# Altium integrated library Library.IntLib: 7 symbols
Pins are listed as number, name and electrical type; pins without a type are passive.

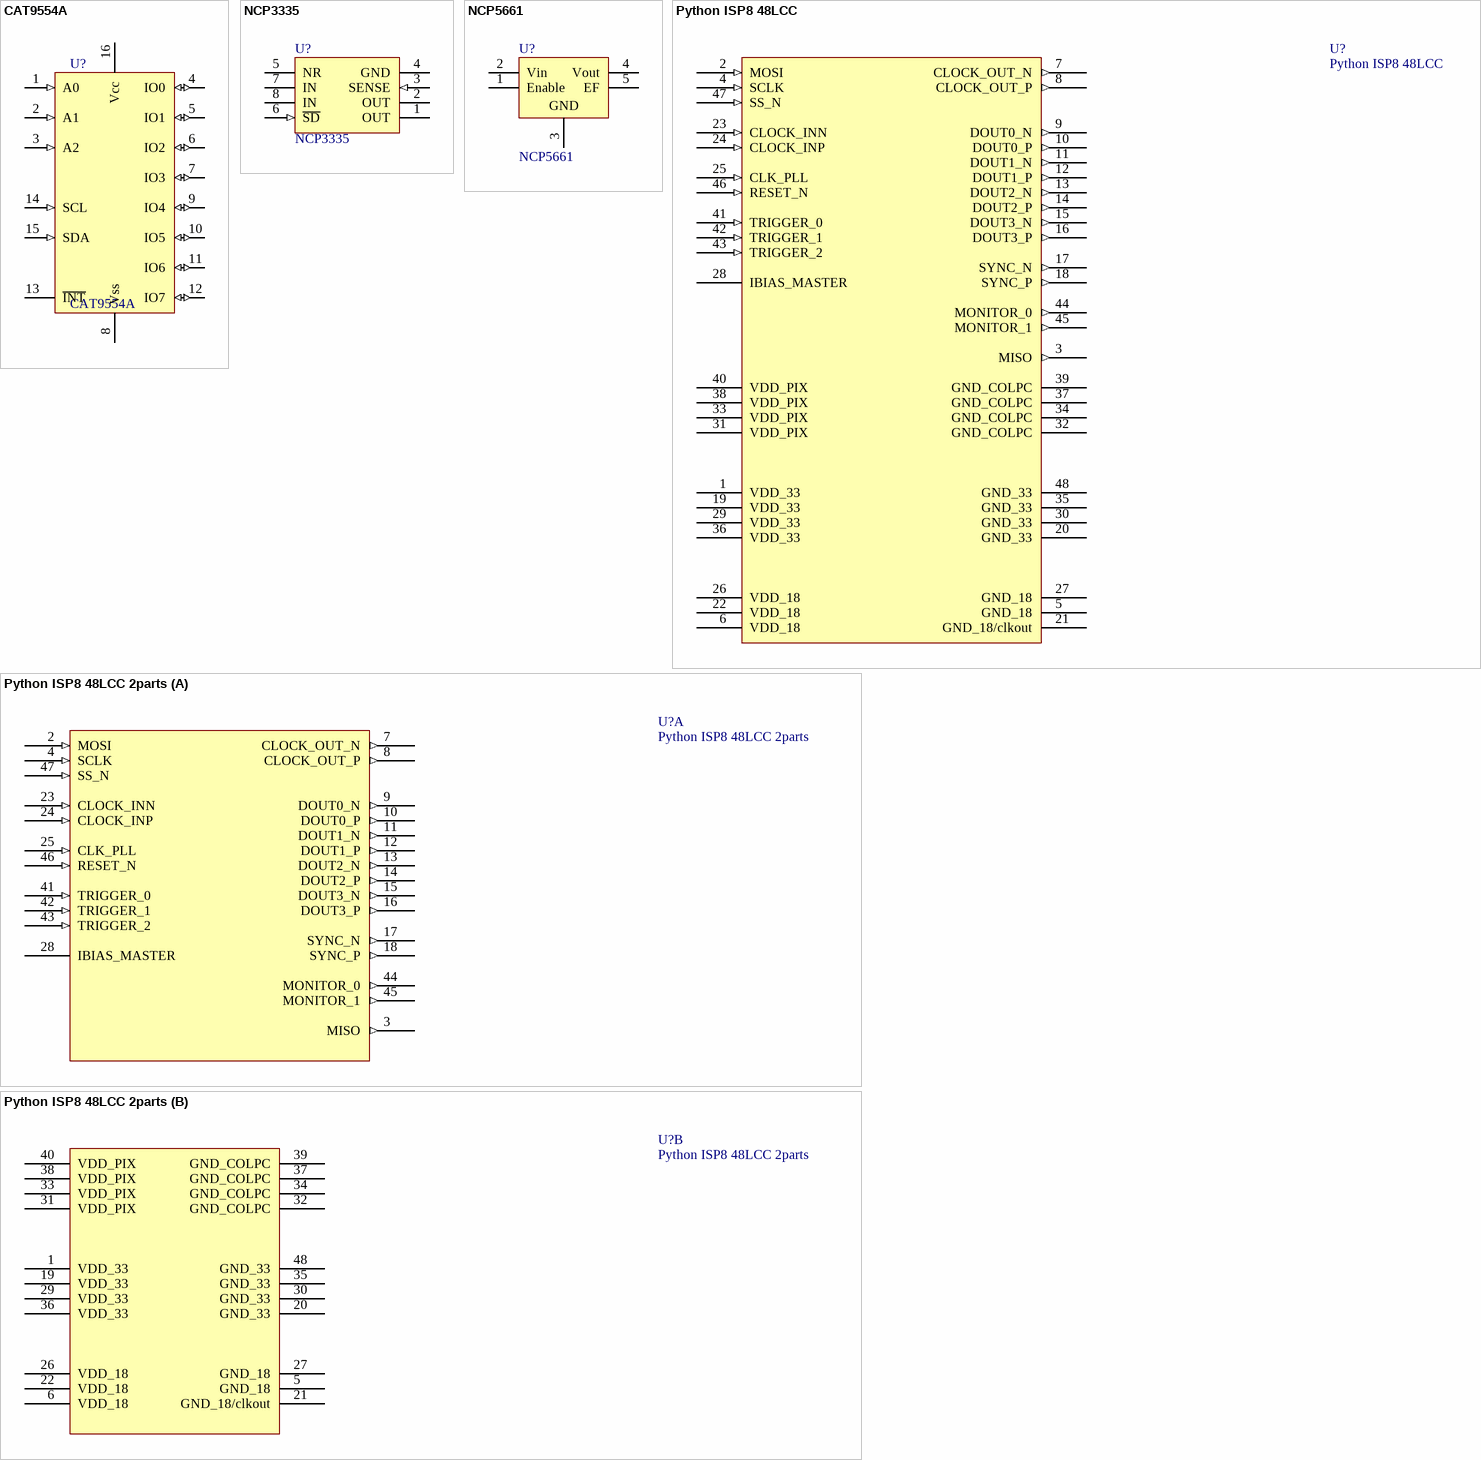
[diagram p0: symbols CAT9554A to Python ISP8 48LCC 2parts]

## CAT9554A
designator U?
8bit I2C port expander; Published: 16-Jan-2001; LatestRevisionDate: 13-Apr-2006; LatestRevisionNote: IPC-7351 Footprint Added.; DatasheetVersion: 1996; PackageReference: WSO16; Publisher: Altium Limited; PackageDescription: 16-Pin Small Outline Integrated Circuit 1.27 mm Pitch; Code_JEDEC: MS-013-AA; Code_IPC: SOIC127P1030-16; ComponentLink1Description: Manufacturer Link; ComponentLink1URL: http://www.maxim-ic.com/; ComponentLink2Description: Datasheet; ComponentLink2URL: http://pdfserv.maxim-ic.com/en/ds/DG300A-DG303A.pdf
footprint TSSOP16_N (TSOP, 16-Leads, Body 5x4.4mm, Pitch 0.65mm, IPC Medium Density)
pins: 1 A0 (in), 2 A1 (in), 3 A2 (in), 4 IO0 (io), 5 IO1 (io), 6 IO2 (io), 7 IO3 (io), 8 Vss, 9 IO4 (io), 10 IO5 (io), 11 IO6 (io), 12 IO7 (io), 13 ~{INT}, 14 SCL (in), 15 SDA (in), 16 Vcc (power)

## NCP3335
designator U?
NCP3335ADMADJR2G, ADJ Ultra High Accuracy, Low Iq, 500 mA Low Dropout Regulator; Published: 15-Apr-2002; LatestRevisionDate: 13-Apr-2006; LatestRevisionNote: IPC-7351 Footprint Added.; DatasheetVersion: 1998; PackageVersion: 1998; PackageReference: 751-05; Publisher: Altium Limited; PackageDescription: 8-Pin Small Outline Integrated Circuit 1.27 mm Pitch; Code_JEDEC: MS-012-AA; Code_IPC: SOIC127P600-8; ComponentLink1Description: Manufacturer Link; ComponentLink1URL: http://www.onsemi.com/site/products/taxonomy/0,4438,503,00.html; ComponentLink2Description: Datasheet; ComponentLink2URL: http://www.onsemi.com/pub/Collateral/MC33264-D.PDF
footprint ONSC-MICRO-8-846A-02_H_V (SOIC, 8-Leads, Body 3.1x3.1mm, Pitch 0.65mm)
pins: 1 OUT, 2 OUT, 3 SENSE (in), 4 GND (power), 5 NR, 6 ~{SD} (in), 7 IN, 8 IN

## NCP5661
designator U?
Low Dropout Voltage Regulator; Note: Heatsink surface is connected to Pin 3; Published: 15-Apr-2002; DatasheetVersion: 1997; PackageVersion: 1997; PackageReference: 314A-03; Publisher: Altium Limited; PackageDescription: TO, Thru-Hole, Horizontal, Heatsink Mounted; 5 Bent Staggered Leads; Pitch 1.7 mm; ComponentLink1Description: Manufacturer Link; ComponentLink1URL: http://www.onsemi.com/site/products/taxonomy/0,4438,503,00.html; ComponentLink2Description: Datasheet; ComponentLink2URL: http://www.onsemi.com/pub/Collateral/LM2931-D.PDF
footprint ONSC-DFN6-6-488-03_V (SON, 6-Leads, Body 2.2x2mm, Pitch 0.65mm)
footprint D-PAK SIP-G5/Z10.9 (D-PAK; 5 Leads (1 Cropped); Body 10.1 (inc. leads) x 6.6 mm (LxW max))
pins: 1 Enable (power), 2 Vin (power), 3 GND (power), 4 Vout (power), 5 EF (power)

## Python ISP8 48LCC
designator U?
Python ISP8 28LCC; Published: 23-Sep-2002; LatestRevisionDate: 13-Apr-2006; LatestRevisionNote: IPC-7351 Footprint Added.; DatasheetVersion: Jul-1999; PackageVersion: ver14.3, Jul-2006; PackageReference: RQFP208; Publisher: Altium Limited; PackageDescription: 208-Pin Power Quad Flat Pack (RQFP208); Code_JEDEC: MS-029-FA-1; ComponentLink1Description: Manufacturer Link; ComponentLink1URL: http://www.altera.com/products/devices/max9k/m9k-index.html; ComponentLink2Description: Datasheet; ComponentLink2URL: http://www.altera.com/literature/ds/m9000.pdf
footprint LCC48
pins: 1 VDD_33, 2 MOSI (in), 3 MISO (out), 4 SCLK (in), 5 GND_18 (power), 6 VDD_18, 7 CLOCK_OUT_N (out), 8 CLOCK_OUT_P (out), 9 DOUT0_N (out), 10 DOUT0_P (out), 11 DOUT1_N (out), 12 DOUT1_P (out), 13 DOUT2_N (out), 14 DOUT2_P (out), 15 DOUT3_N (out), 16 DOUT3_P (out), 17 SYNC_N (out), 18 SYNC_P (out), 19 VDD_33, 20 GND_33 (power), 21 GND_18/clkout (power), 22 VDD_18, 23 CLOCK_INN (in), 24 CLOCK_INP (in), 25 CLK_PLL (in), 26 VDD_18, 27 GND_18 (power), 28 IBIAS_MASTER, 29 VDD_33, 30 GND_33 (power), 31 VDD_PIX, 32 GND_COLPC (power), 33 VDD_PIX, 34 GND_COLPC (power), 35 GND_33 (power), 36 VDD_33, 37 GND_COLPC (power), 38 VDD_PIX, 39 GND_COLPC (power), 40 VDD_PIX, 41 TRIGGER_0 (in), 42 TRIGGER_1 (in), 43 TRIGGER_2 (in), 44 MONITOR_0 (out), 45 MONITOR_1 (out), 46 RESET_N (in), 47 SS_N (in), 48 GND_33 (power)

## Python ISP8 48LCC 2parts
designator U?
Python ISP8 28LCC; Published: 23-Sep-2002; LatestRevisionDate: 13-Apr-2006; LatestRevisionNote: IPC-7351 Footprint Added.; DatasheetVersion: Jul-1999; PackageVersion: ver14.3, Jul-2006; PackageReference: RQFP208; Publisher: Altium Limited; PackageDescription: 208-Pin Power Quad Flat Pack (RQFP208); Code_JEDEC: MS-029-FA-1; ComponentLink1Description: Manufacturer Link; ComponentLink1URL: http://www.altera.com/products/devices/max9k/m9k-index.html; ComponentLink2Description: Datasheet; ComponentLink2URL: http://www.altera.com/literature/ds/m9000.pdf
footprint LCC48
part A pins: 2 MOSI (in), 3 MISO (out), 4 SCLK (in), 7 CLOCK_OUT_N (out), 8 CLOCK_OUT_P (out), 9 DOUT0_N (out), 10 DOUT0_P (out), 11 DOUT1_N (out), 12 DOUT1_P (out), 13 DOUT2_N (out), 14 DOUT2_P (out), 15 DOUT3_N (out), 16 DOUT3_P (out), 17 SYNC_N (out), 18 SYNC_P (out), 23 CLOCK_INN (in), 24 CLOCK_INP (in), 25 CLK_PLL (in), 28 IBIAS_MASTER, 41 TRIGGER_0 (in), 42 TRIGGER_1 (in), 43 TRIGGER_2 (in), 44 MONITOR_0 (out), 45 MONITOR_1 (out), 46 RESET_N (in), 47 SS_N (in)
part B pins: 1 VDD_33, 5 GND_18 (power), 6 VDD_18, 19 VDD_33, 20 GND_33 (power), 21 GND_18/clkout (power), 22 VDD_18, 26 VDD_18, 27 GND_18 (power), 29 VDD_33, 30 GND_33 (power), 31 VDD_PIX, 32 GND_COLPC (power), 33 VDD_PIX, 34 GND_COLPC (power), 35 GND_33 (power), 36 VDD_33, 37 GND_COLPC (power), 38 VDD_PIX, 39 GND_COLPC (power), 40 VDD_PIX, 48 GND_33 (power)

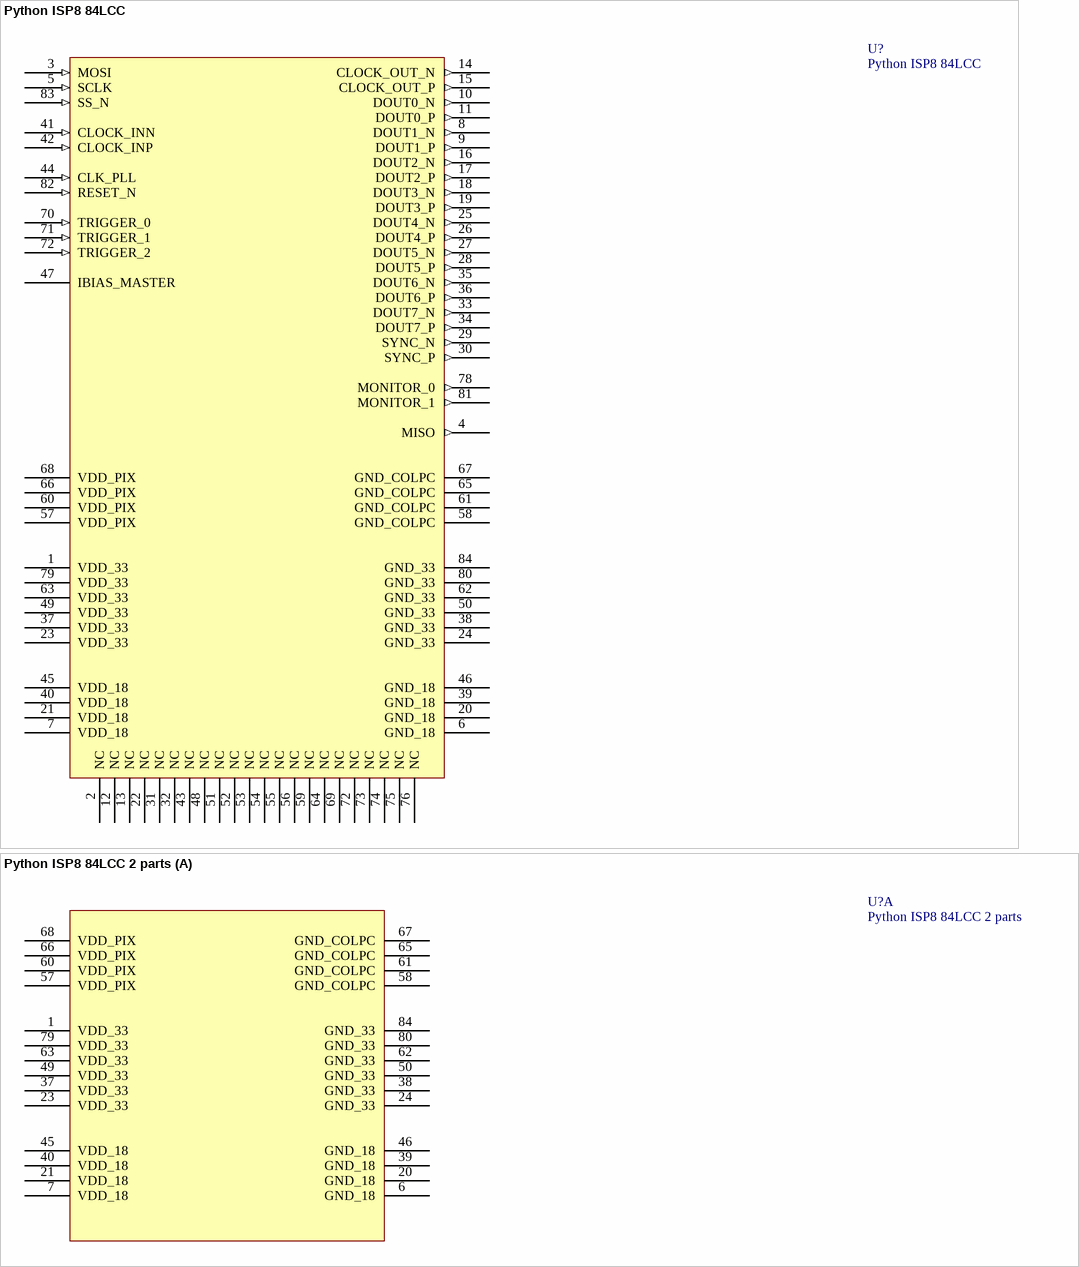
[diagram p1: symbols Python ISP8 84LCC to Python ISP8 84LCC 2 parts]

## Python ISP8 84LCC
designator U?
MAX 9000 PLD with 191 I/O Pins, 240-Pin RQFP, Industrial Grade; Published: 23-Sep-2002; LatestRevisionDate: 13-Apr-2006; LatestRevisionNote: IPC-7351 Footprint Added.; DatasheetVersion: Jul-1999; PackageVersion: ver14.2, Oct-2005; PackageReference: RQFP240; Publisher: Altium Limited; PackageDescription: 240-Pin Power Quad Flat Pack (RQFP240); Supplier 1: Digi-Key; Supplier Part Number 1: 544-2365-ND; Code_JEDEC: MS-029-GA; ComponentLink1Description: Manufacturer Link; ComponentLink1URL: http://www.altera.com/products/devices/max9k/m9k-index.html; ComponentLink2Description: Datasheet; ComponentLink2URL: http://www.altera.com/literature/ds/m9000.pdf
footprint PLCC84_L (84-Pin Plastic J-Lead Chip Carrier (PLCC84), IPC High Density)
pins: 1 VDD_33 (power), 2 NC, 3 MOSI (in), 4 MISO (out), 5 SCLK (in), 6 GND_18 (power), 7 VDD_18 (power), 8 DOUT1_N (out), 9 DOUT1_P (out), 10 DOUT0_N (out), 11 DOUT0_P (out), 12 NC, 13 NC, 14 CLOCK_OUT_N (out), 15 CLOCK_OUT_P (out), 16 DOUT2_N (out), 17 DOUT2_P (out), 18 DOUT3_N (out), 19 DOUT3_P (out), 20 GND_18 (power), 21 VDD_18 (power), 22 NC, 23 VDD_33 (power), 24 GND_33 (power), 25 DOUT4_N (out), 26 DOUT4_P (out), 27 DOUT5_N (out), 28 DOUT5_P (out), 29 SYNC_N (out), 30 SYNC_P (out), 31 NC, 32 NC, 33 DOUT7_N (out), 34 DOUT7_P (out), 35 DOUT6_N (out), 36 DOUT6_P (out), 37 VDD_33 (power), 38 GND_33 (power), 39 GND_18 (power), 40 VDD_18 (power), 41 CLOCK_INN (in), 42 CLOCK_INP (in), 43 NC, 44 CLK_PLL (in), 45 VDD_18 (power), 46 GND_18 (power), 47 IBIAS_MASTER, 48 NC, 49 VDD_33 (power), 50 GND_33 (power), 51 NC, 52 NC, 53 NC, 54 NC, 55 NC, 56 NC, 57 VDD_PIX (power), 58 GND_COLPC (power), 59 NC, 60 VDD_PIX (power), 61 GND_COLPC (power), 62 GND_33 (power), 63 VDD_33 (power), 64 NC, 65 GND_COLPC (power), 66 VDD_PIX (power), 67 GND_COLPC (power), 68 VDD_PIX (power), 69 NC, 70 TRIGGER_0 (in), 71 TRIGGER_1 (in), 72 TRIGGER_2 (in), 72 NC, 73 NC, 74 NC, 75 NC, 76 NC, 78 MONITOR_0 (out), 79 VDD_33 (power), 80 GND_33 (power), 81 MONITOR_1 (out), 82 RESET_N (in), 83 SS_N (in), 84 GND_33 (power)

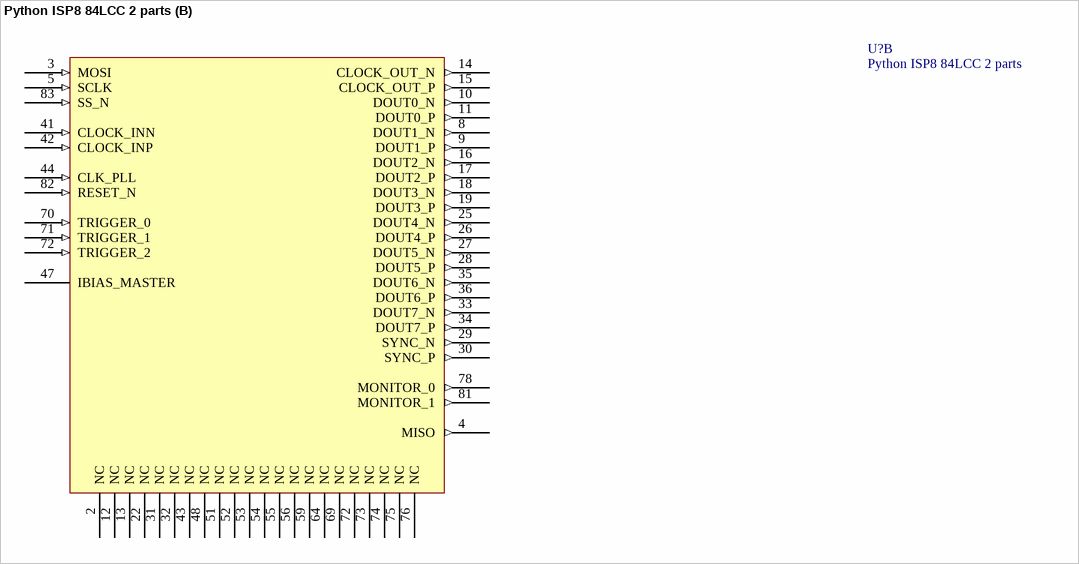
[diagram p2: symbol Python ISP8 84LCC 2 parts]

## Python ISP8 84LCC 2 parts
designator U?
MAX 9000 PLD with 191 I/O Pins, 240-Pin RQFP, Industrial Grade; Published: 23-Sep-2002; LatestRevisionDate: 13-Apr-2006; LatestRevisionNote: IPC-7351 Footprint Added.; DatasheetVersion: Jul-1999; PackageVersion: ver14.2, Oct-2005; PackageReference: RQFP240; Publisher: Altium Limited; PackageDescription: 240-Pin Power Quad Flat Pack (RQFP240); Supplier 1: Digi-Key; Supplier Part Number 1: 544-2365-ND; Code_JEDEC: MS-029-GA; ComponentLink1Description: Manufacturer Link; ComponentLink1URL: http://www.altera.com/products/devices/max9k/m9k-index.html; ComponentLink2Description: Datasheet; ComponentLink2URL: http://www.altera.com/literature/ds/m9000.pdf
footprint PLCC84_L (84-Pin Plastic J-Lead Chip Carrier (PLCC84), IPC High Density)
part A pins: 1 VDD_33 (power), 6 GND_18 (power), 7 VDD_18 (power), 20 GND_18 (power), 21 VDD_18 (power), 23 VDD_33 (power), 24 GND_33 (power), 37 VDD_33 (power), 38 GND_33 (power), 39 GND_18 (power), 40 VDD_18 (power), 45 VDD_18 (power), 46 GND_18 (power), 49 VDD_33 (power), 50 GND_33 (power), 57 VDD_PIX (power), 58 GND_COLPC (power), 60 VDD_PIX (power), 61 GND_COLPC (power), 62 GND_33 (power), 63 VDD_33 (power), 65 GND_COLPC (power), 66 VDD_PIX (power), 67 GND_COLPC (power), 68 VDD_PIX (power), 79 VDD_33 (power), 80 GND_33 (power), 84 GND_33 (power)
part B pins: 2 NC, 3 MOSI (in), 4 MISO (out), 5 SCLK (in), 8 DOUT1_N (out), 9 DOUT1_P (out), 10 DOUT0_N (out), 11 DOUT0_P (out), 12 NC, 13 NC, 14 CLOCK_OUT_N (out), 15 CLOCK_OUT_P (out), 16 DOUT2_N (out), 17 DOUT2_P (out), 18 DOUT3_N (out), 19 DOUT3_P (out), 22 NC, 25 DOUT4_N (out), 26 DOUT4_P (out), 27 DOUT5_N (out), 28 DOUT5_P (out), 29 SYNC_N (out), 30 SYNC_P (out), 31 NC, 32 NC, 33 DOUT7_N (out), 34 DOUT7_P (out), 35 DOUT6_N (out), 36 DOUT6_P (out), 41 CLOCK_INN (in), 42 CLOCK_INP (in), 43 NC, 44 CLK_PLL (in), 47 IBIAS_MASTER, 48 NC, 51 NC, 52 NC, 53 NC, 54 NC, 55 NC, 56 NC, 59 NC, 64 NC, 69 NC, 70 TRIGGER_0 (in), 71 TRIGGER_1 (in), 72 TRIGGER_2 (in), 72 NC, 73 NC, 74 NC, 75 NC, 76 NC, 78 MONITOR_0 (out), 81 MONITOR_1 (out), 82 RESET_N (in), 83 SS_N (in)